# Altium schematic symbol library MiscComponents.SchLib: 18 symbols
Pins are listed as number, name and electrical type; pins without a type are passive.

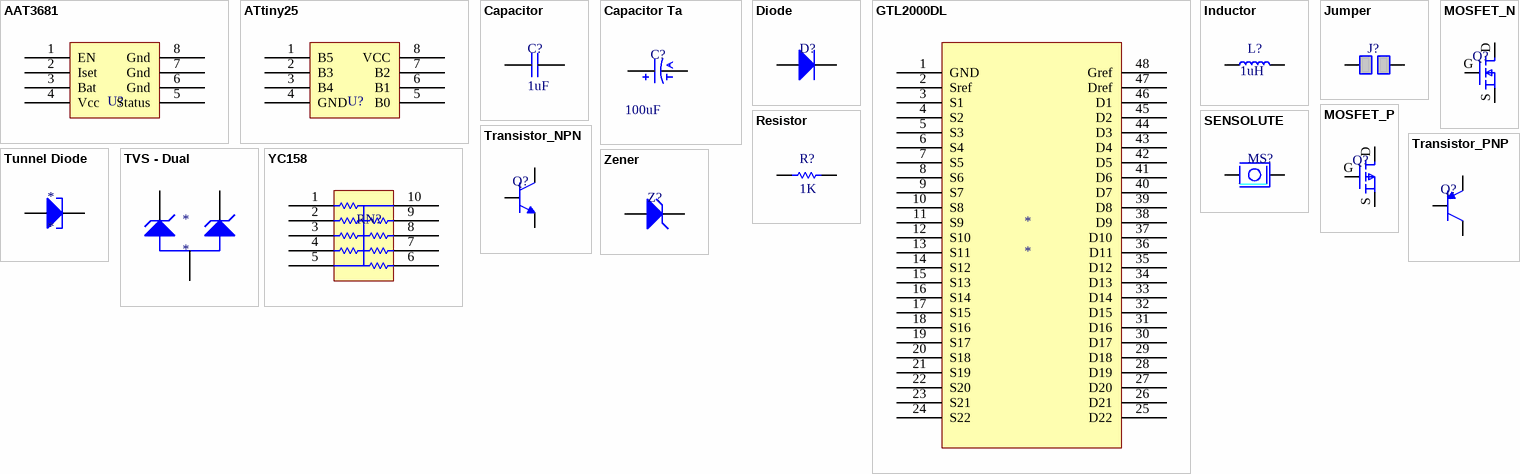
[diagram p0: symbols AAT3681 to Zener]

## AAT3681
designator U?  (value not drawn)
footprint SC70JW-8
pins: 1 EN, 2 Iset, 3 Bat, 4 Vcc, 5 Status, 6 Gnd, 7 Gnd, 8 Gnd

## ATtiny25
designator U?  (value not drawn)
footprint SO8
pins: 1 B5, 2 B3, 3 B4, 4 GND, 5 B0, 6 B1, 7 B2, 8 VCC

## Capacitor
designator C?  value 1uF
footprint SMD0201
footprint SMD0402
footprint SMD0603
footprint SMD0805
pins: 1, 2

## Capacitor Ta
designator C?  value 100uF
footprint TR3A
footprint TR3B
footprint TR3C
footprint TR3D
footprint TR3E
footprint TR3V
pins: 1, 2

## Diode
designator D?  (value not drawn)
pins: 1, 2

## GTL2000DL
designator *
footprint SSOP48
pins: 1 GND, 2 Sref, 3 S1, 4 S2, 5 S3, 6 S4, 7 S5, 8 S6, 9 S7, 10 S8, 11 S9, 12 S10, 13 S11, 14 S12, 15 S13, 16 S14, 17 S15, 18 S16, 19 S17, 20 S18, 21 S19, 22 S20, 23 S21, 24 S22, 25 D22, 26 D21, 27 D20, 28 D19, 29 D18, 30 D17, 31 D16, 32 D15, 33 D14, 34 D13, 35 D12, 36 D11, 37 D10, 38 D9, 39 D8, 40 D7, 41 D6, 42 D5, 43 D4, 44 D3, 45 D2, 46 D1, 47 Dref, 48 Gref

## Inductor
designator L?  value 1uH
footprint SMD0201
footprint SMD0402
footprint SMD0603
footprint SMD0805
pins: 1, 2

## Jumper
designator J?  (value not drawn)
Solder Jumper
footprint Jumper (Solder Jumper)
pins: 1, 2

## MOSFET_N
designator Q?  (value not drawn)
footprint SOT32-GDS (Mosfet-N)
pins: D, G, S

## MOSFET_P
designator Q?  (value not drawn)
pins: D, G, S

## Resistor
designator R?  value 1K
footprint SMD0201
footprint SMD0402
footprint SMD0603
footprint SMD0805
pins: 1, 2

## SENSOLUTE
designator MS?  (value not drawn)
footprint Sensolute (Motion Sensor)
pins: 1, 2

## Transistor_NPN
designator Q?  (value not drawn)
footprint SOT23
pins: B, C, E

## Transistor_PNP
designator Q?  (value not drawn)
footprint SOT23
pins: B, C, E

## Tunnel Diode
designator *
pins: 1, 2

## TVS - Dual
designator *
footprint SOT23-TVS
pins: 1, 2, 3

## YC158
designator RN?  (value not drawn)
footprint YC158
pins: 1, 2, 3, 4, 5, 6, 7, 8, 9, 10

## Zener
designator Z?  (value not drawn)
pins: 1, 2